# Altium footprint library Switch.PcbLib: 28 footprints (part 2 of 2)
Each footprint in its own frame and in the unit in brackets; x right, y up, seen from the top. Pads: shape width x height; smd on the part's side, far side on the other; paste and mask are expansions set on the pad; w line width, h text height; cw(c..) or ccw(c..) is an arc to the next point about the centre after c.
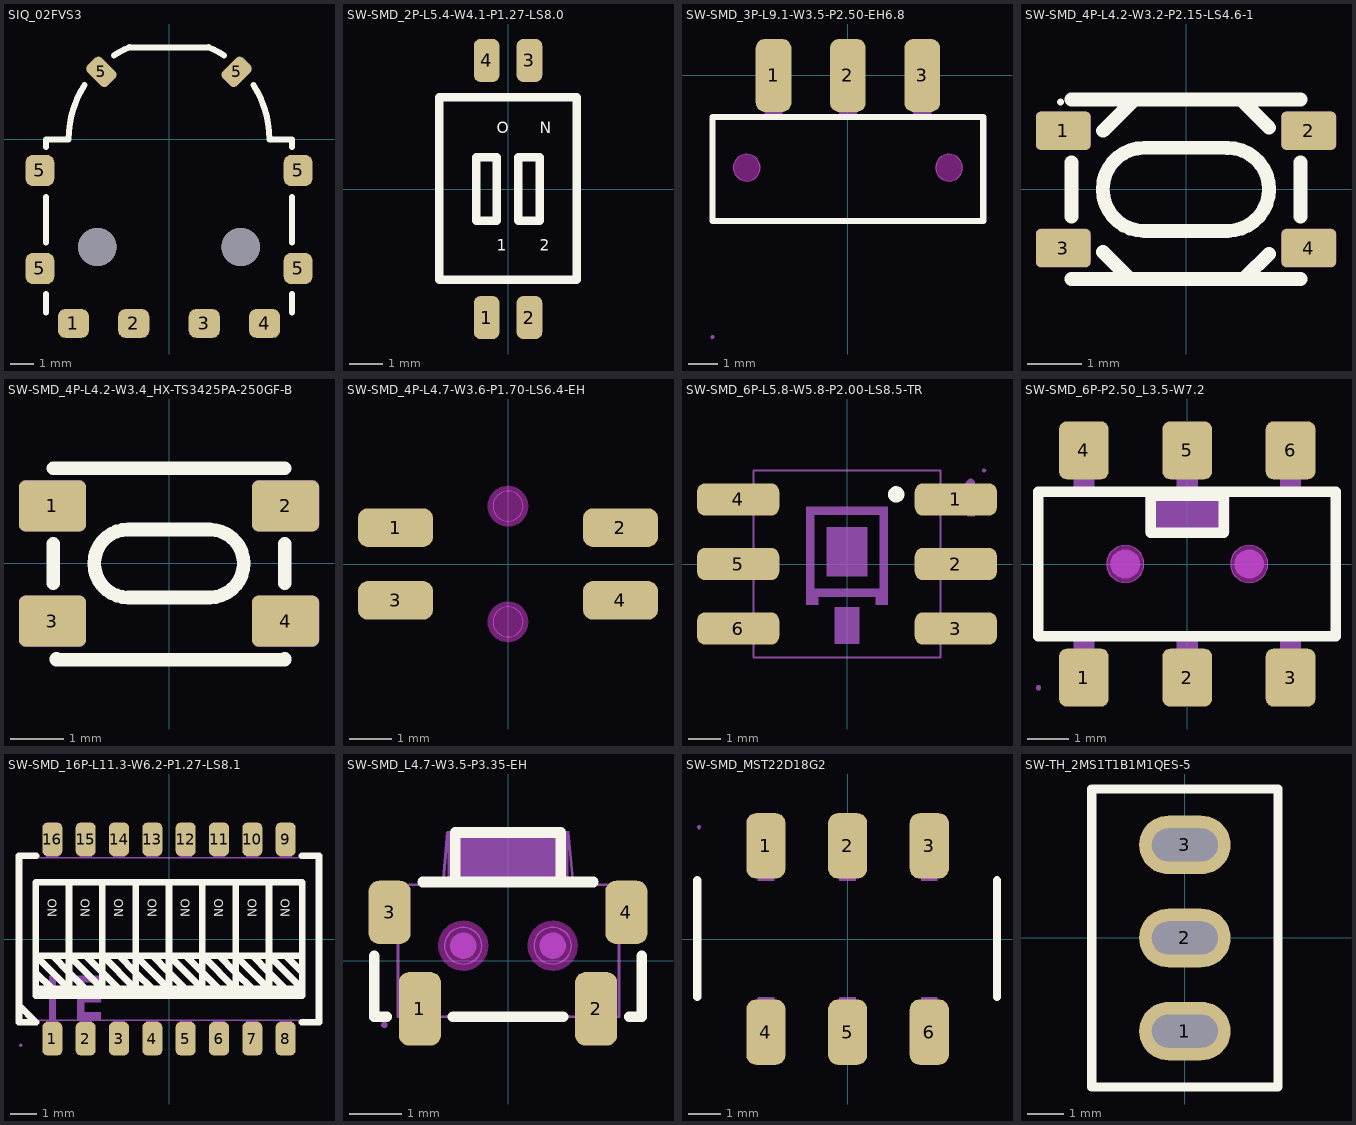
[diagram p1: the footprints below, top view; thin cyan lines are the x and y axes]

## SIQ_02FVS3 [mm] "美上美滚动编码器"
height 4.3
pads (10):
  rrect50% 1.3x1.2 smd: 1(-4,-7.7) 2(-1.475,-7.7) 3(1.475,-7.7) 4(4,-7.7)
  rrect50% 1.2x1.3 smd: 5(-5.4,-5.4) 5(-5.4,-1.3) 5(5.4,-5.4) 5(5.4,-1.3)
  rrect50% 0.85x1.2 smd rot 45: 5(-2.828,2.828)
  rrect50% 0.85x1.2 smd rot 135: 5(2.828,2.828)
via 3,-4.5 diameter 1.6 hole 1.6
via -3,-4.5 diameter 1.6 hole 1.6
Top Overlay:
  lines w0.254: -5.15,-7.25 -5.15,-6.477 ; -5.15,-4.318 -5.15,-2.402 ; -5.15,-0.324 -5.15,0 -4.2,0 cw(c0,0) -3.533,2.271 ; -2.298,3.515 cw(c0,0) -1.655,3.86 ; -1.655,3.85 1.655,3.85 ; 1.655,3.86 cw(c0,0) 2.298,3.515 ; 3.533,2.271 cw(c0,0) 4.2,0 5.15,0 5.15,-0.324 ; 5.15,-7.25 5.15,-6.477 ; 5.15,-4.318 5.15,-2.402
3D body "RE.step": height 4.06, standoff -0.44, extent -7.199,-7.5 7.199,7.25

## SW-SMD_2P-L5.4-W4.1-P1.27-LS8.0 [mm]
pads (4):
  rrect50% 0.759x1.27 smd mask+0.051: 1(-0.635,-3.81) 2(0.635,-3.81) 3(0.635,3.81) 4(-0.635,3.81)
Top Overlay:
  lines w0.254: -2.033,-2.692 2.031,-2.692 2.031,2.718 -2.033,2.718 -2.033,-2.692 ; -0.941,-0.94 -0.331,-0.94 -0.331,0.94 -0.941,0.94 -0.941,-0.94 ; 0.304,-0.94 0.939,-0.94 0.939,0.94 0.304,0.94 0.304,-0.94
  text "2" at 0.939,-1.834 h0.33
  text "1" at -0.331,-1.834 h0.33
  text "N" at 0.939,1.646 h0.33
  text "O" at -0.331,1.646 h0.33

## SW-SMD_3P-L9.1-W3.5-P2.50-EH6.8 [mm]
pads (3):
  rrect50% 1.2x2.45 smd: 1(-2.5,0) 2(0,0) 3(2.5,0)
Top Overlay:
  lines w0.203: 0.25,-4.9 1.75,-4.9 ; -4.55,-4.9 4.55,-4.9 4.55,-1.4 -4.55,-1.4 -4.55,-4.9
Keep-Out Layer:
  board cut-out: -2.95,-3.1 -2.95,-3.011 -3.019,-2.845 -3.145,-2.719 -3.311,-2.65 -3.49,-2.65 -3.655,-2.719 -3.782,-2.845 -3.85,-3.011 -3.85,-3.1 -3.85,-3.19 -3.782,-3.355 -3.655,-3.482 -3.49,-3.55 -3.311,-3.55 -3.145,-3.482 -3.019,-3.355 -2.95,-3.19 -2.95,-3.1
  board cut-out: 3.85,-3.1 3.85,-3.011 3.781,-2.845 3.655,-2.719 3.489,-2.65 3.31,-2.65 3.145,-2.719 3.018,-2.845 2.95,-3.011 2.95,-3.1 2.95,-3.19 3.018,-3.355 3.145,-3.482 3.31,-3.55 3.489,-3.55 3.655,-3.482 3.781,-3.355 3.85,-3.19 3.85,-3.1
Mechanical 1:
  circle w0.005: c-3.4,-3.1 r0.45
  circle w0.005: c3.4,-3.1 r0.45
Mechanical 15:
  region: -4.49,-8.8 -4.49,-8.775 -4.525,-8.74 -4.575,-8.74 -4.61,-8.775 -4.61,-8.8 -4.61,-8.825 -4.575,-8.86 -4.525,-8.86 -4.49,-8.825 -4.49,-8.8
  region: -2.2,0.8 -2.2,-0.8 -2.8,-0.8 -2.8,0.8
  region: 2.8,0.8 2.8,-0.8 2.2,-0.8 2.2,0.8
  region: 0.3,0.8 0.3,-0.8 -0.3,-0.8 -0.3,0.8
  region: 2.8,-0.79 2.8,-1.41 2.205,-1.41 2.205,-1.4 2.205,-0.79
  region: 0.3,-0.79 0.3,-1.41 -0.295,-1.41 -0.295,-1.4 -0.295,-0.79
  region: -2.2,-0.79 -2.2,-1.41 -2.795,-1.41 -2.795,-1.4 -2.795,-0.79
  lines w0.051: 0.25,-4.9 -4.55,-4.9 -4.55,-1.4 4.55,-1.4 4.55,-4.9 1.75,-4.9
3D body "switch1.step": height 3.5, standoff -0.3, extent -4.55,-8.9 4.55,0.8

## SW-SMD_4P-L4.2-W3.2-P2.15-LS4.6-1 [mm] "SMD; SW-SMD_4P"
height -909.212
pads (4):
  rrect25% 1x0.7 smd mask+0.05: 1(-2.25,1.075) 2(2.25,1.075) 3(-2.25,-1.075) 4(2.25,-1.075)
Top Overlay:
  region: -2.24,1.6 -2.241,1.612 -2.244,1.623 -2.25,1.633 -2.257,1.642 -2.267,1.65 -2.277,1.655 -2.288,1.659 -2.3,1.66 -2.312,1.659 -2.323,1.655 -2.333,1.65 -2.342,1.642 -2.35,1.633 -2.355,1.623 -2.359,1.612 -2.36,1.6 -2.359,1.588 -2.355,1.577 -2.35,1.567 -2.342,1.558 -2.333,1.55 -2.323,1.545 -2.312,1.541 -2.3,1.54 -2.288,1.541 -2.277,1.545 -2.267,1.55 -2.257,1.558 -2.25,1.567 -2.244,1.577 -2.241,1.588
  lines w0.254: -2.1,-1.646 2.1,-1.646 ; -2.1,-0.494 -2.1,0.494 -2.099,0.495 ; -2.1,1.646 2.1,1.646 ; -1.52,-1.151 -1.07,-1.6 ; -1.52,1.074 -0.994,1.6 ; 1.051,1.6 1.52,1.131 ; 1.102,-1.6 1.52,-1.182 ; 2.1,-0.494 2.1,0.494 ; -1.525,0.001 -1.514,-0.131 -1.479,-0.26 -1.423,-0.38 -1.347,-0.489 -1.253,-0.583 -1.144,-0.659 -1.024,-0.715 -0.896,-0.749 -0.763,-0.761 0.761,-0.761 0.893,-0.75 1.021,-0.715 1.142,-0.659 1.25,-0.583 1.344,-0.489 1.421,-0.381 1.477,-0.261 1.511,-0.132 1.523,0 1.511,0.132 1.477,0.26 1.421,0.381 1.345,0.49 1.251,0.583 1.143,0.66 1.022,0.716 0.894,0.75 0.762,0.762 -0.763,0.763 -0.896,0.751 -1.024,0.717 -1.144,0.661 -1.253,0.585 -1.347,0.491 -1.423,0.382 -1.479,0.262 -1.514,0.133 -1.525,0.001
Mechanical 9:
  drawing of 4 lines, arcs and shapes, not listed
3D body "SW-SMD_4P-L4.2-W3.2-P2.15-LS4.6-1.step": height 1, standoff 0, extent -2.1,-1.6 2.1,1.6

## SW-SMD_4P-L4.2-W3.4_HX-TS3425PA-250GF-B [mm] "SMD-4P,3.35x5.2mm"
height -909.212
pads (4):
  rrect25% 1.25x0.95 smd mask+0.05: 1(-2.175,1.075) 2(2.175,1.075) 3(-2.175,-1.075) 4(2.175,-1.075)
Top Overlay:
  lines w0.254: -2.159,-0.369 -2.159,0.369 ; -2.159,1.781 2.159,1.781 ; -2.1,-1.781 -2.1,-1.8 2.159,-1.8 2.159,-1.781 ; -0.762,0.635 -0.872,0.625 -0.979,0.597 -1.08,0.55 -1.17,0.486 -1.248,0.408 -1.312,0.317 -1.359,0.216 -1.387,0.109 -1.397,-0.001 -1.387,-0.111 -1.358,-0.218 -1.311,-0.318 -1.248,-0.409 -1.169,-0.487 -1.079,-0.551 -0.978,-0.597 -0.871,-0.626 -0.761,-0.636 0.763,-0.636 ; -0.761,0.634 0.763,0.634 0.873,0.624 0.979,0.595 1.079,0.548 1.169,0.484 1.246,0.406 1.309,0.315 1.356,0.215 1.384,0.109 1.393,-0.001 1.384,-0.111 1.355,-0.217 1.309,-0.317 1.246,-0.407 1.168,-0.485 1.078,-0.549 0.978,-0.596 0.872,-0.625 0.762,-0.635 ; 2.159,-0.369 2.159,0.369
Mechanical 9:
  drawing of 4 lines, arcs and shapes, not listed
3D body "SW-SMD_4P-L4.2-W3.4_HX-TS3425PA-250GF-B.step": height 1, standoff 0, extent -2.8,-1.8 2.8,1.781

## SW-SMD_4P-L4.7-W3.6-P1.70-LS6.4-EH [mm]
pads (4):
  rrect50% 1.75x0.9 smd paste+0 mask+0.05: 1(-2.625,0.85) 2(2.625,0.85) 3(-2.625,-0.85) 4(2.625,-0.85)
Keep-Out Layer:
  board cut-out: 0.35,1.35 0.35,1.419 0.296,1.547 0.197,1.644 0.069,1.697 -0.069,1.697 -0.197,1.644 -0.295,1.547 -0.349,1.419 -0.35,1.35 -0.349,1.281 -0.296,1.153 -0.197,1.056 -0.069,1.003 0.069,1.003 0.197,1.056 0.296,1.153 0.35,1.281 0.35,1.35
  board cut-out: 0.35,-1.35 0.35,-1.281 0.296,-1.153 0.197,-1.056 0.069,-1.003 -0.069,-1.003 -0.197,-1.056 -0.295,-1.153 -0.349,-1.281 -0.35,-1.35 -0.349,-1.419 -0.296,-1.547 -0.197,-1.644 -0.069,-1.697 0.069,-1.697 0.197,-1.644 0.296,-1.547 0.35,-1.419 0.35,-1.35
Mechanical 1:
  circle w0.025: c0,1.35 r0.35
  circle w0.025: c0,-1.35 r0.35
Multi-Layer keep-out:
  circle w0.254: c0,1.35 r0.35
  circle w0.254: c0,-1.35 r0.35
3D body "key.step": height 2.5, standoff -0.5, extent -3.2,-1.805 3.2,1.805

## SW-SMD_6P-L5.8-W5.8-P2.00-LS8.5-TR [mm]
pads (6):
  rrect50% 2.55x1 smd: 1(3.375,2) 2(3.375,0) 3(3.375,-2) 4(-3.375,2) 5(-3.375,0) 6(-3.375,-2)
Top Overlay:
  circle w0.254: c1.524,2.159 r0.127
Mechanical 6:
  region: 3.644,2.494 3.761,2.611 3.768,2.618 3.784,2.629 3.802,2.636 3.821,2.64 3.831,2.64 3.843,2.64 3.867,2.635 3.889,2.626 3.91,2.613 3.918,2.604 3.938,2.584 3.945,2.577 3.955,2.562 3.962,2.544 3.966,2.526 3.966,2.516 3.966,1.473 3.755,1.473 3.753,1.473 3.75,1.472 3.747,1.471 3.744,1.469 3.743,1.468 3.743,2.33 3.74,2.337 3.593,2.238 3.573,2.238 3.535,2.254 3.507,2.282 3.491,2.32 3.491,2.34 3.491,2.398
  region: 1.27,1.778 1.27,-1.27 0.889,-1.27 0.889,-1.016 -0.889,-1.016 -0.889,-1.27 -1.27,-1.27 -1.27,1.778 1.016,1.778 1.016,1.524 -1.016,1.524 -1.016,-0.762 1.016,-0.762 1.016,1.397
  region: 1.27,1.778 1.016,1.778 1.016,1.397
  region: 0.381,-2.476 -0.381,-2.476 -0.381,-1.333 0.381,-1.333
  region: 0.635,1.143 0.635,-0.381 -0.635,-0.381 -0.635,1.143
Mechanical 15:
  region: 4.31,2.9 4.309,2.924 4.274,2.957 4.226,2.957 4.191,2.924 4.19,2.9 4.191,2.876 4.226,2.842 4.274,2.842 4.309,2.876 4.31,2.9
  region: -2.75,-1.7 -4.25,-1.7 -4.25,-2.3 -2.75,-2.3
  region: -2.75,0.3 -4.25,0.3 -4.25,-0.3 -2.75,-0.3
  region: -2.75,2.3 -4.25,2.3 -4.25,1.7 -2.75,1.7
  region: 4.25,-1.7 2.75,-1.7 2.75,-2.3 4.25,-2.3
  region: 4.25,0.3 2.75,0.3 2.75,-0.3 4.25,-0.3
  region: 4.25,2.3 2.75,2.3 2.75,1.7 4.25,1.7
  lines w0.051: -2.9,-2.9 -2.9,2.9 2.9,2.9 2.9,-2.9 -2.9,-2.9
3D body "自锁.step": height 10.3, standoff 0, extent -4.25,-2.9 4.25,2.9

## SW-SMD_6P-P2.50_L3.5-W7.2 [mm]
pads (6):
  rrect30% 1.2x1.4 smd: 1(-2.5,-2.75) 2(0,-2.75) 3(2.5,-2.75) 4(-2.5,2.75) 5(0,2.75) 6(2.5,2.75)
Top Overlay:
  lines w0.254: -3.6,-1.75 3.6,-1.75 3.6,1.75 -3.6,1.75 -3.6,-1.75 ; -0.889,0.762 0.889,0.762 0.889,1.651 -0.889,1.651 -0.889,0.762
Keep-Out Layer:
  board cut-out: -1.05,0 -1.05,0.09 -1.118,0.255 -1.245,0.382 -1.41,0.45 -1.589,0.45 -1.755,0.382 -1.881,0.255 -1.95,0.09 -1.95,0 -1.95,-0.09 -1.881,-0.255 -1.755,-0.382 -1.589,-0.45 -1.41,-0.45 -1.245,-0.382 -1.118,-0.255 -1.05,-0.09 -1.05,0
  board cut-out: 1.95,0 1.95,0.09 1.882,0.255 1.755,0.382 1.59,0.45 1.411,0.45 1.245,0.382 1.119,0.255 1.05,0.09 1.05,0 1.05,-0.09 1.119,-0.255 1.245,-0.382 1.411,-0.45 1.59,-0.45 1.755,-0.382 1.882,-0.255 1.95,-0.09 1.95,0
Mechanical 1:
  circle w0.005: c-1.5,0 r0.45
  circle w0.005: c1.5,0 r0.45
Mechanical 6:
  region: -1.016,1.778 1.016,1.778 1.016,0.762 -1.016,0.762
Mechanical 15:
  region: -3.54,-3 -3.54,-2.975 -3.575,-2.94 -3.625,-2.94 -3.66,-2.975 -3.66,-3 -3.66,-3.025 -3.625,-3.06 -3.575,-3.06 -3.54,-3.025 -3.54,-3
  region: -1.15,0 -1.15,0.07 -1.203,0.198 -1.302,0.297 -1.43,0.35 -1.569,0.35 -1.698,0.297 -1.797,0.198 -1.85,0.07 -1.85,0 -1.85,-0.07 -1.797,-0.198 -1.698,-0.297 -1.569,-0.35 -1.43,-0.35 -1.302,-0.297 -1.203,-0.198 -1.15,-0.07 -1.15,0
  region: 1.85,0 1.85,0.07 1.797,0.198 1.698,0.297 1.57,0.35 1.431,0.35 1.302,0.297 1.203,0.198 1.15,0.07 1.15,0 1.15,-0.07 1.203,-0.198 1.302,-0.297 1.431,-0.35 1.57,-0.35 1.698,-0.297 1.797,-0.198 1.85,-0.07 1.85,0
  region: 2.25,1.74 2.25,2.31 2.75,2.31 2.75,1.74
  region: 2.25,2.3 2.25,3 2.75,3 2.75,2.3
  region: -0.25,1.74 -0.25,2.31 0.25,2.31 0.25,1.74
  region: -0.25,2.3 -0.25,3 0.25,3 0.25,2.3
  region: -2.75,1.74 -2.75,2.31 -2.25,2.31 -2.25,1.74
  region: -2.75,2.3 -2.75,3 -2.25,3 -2.25,2.3
  region: 2.25,-2.31 2.25,-1.74 2.75,-1.74 2.75,-2.31
  region: 2.25,-3 2.25,-2.3 2.75,-2.3 2.75,-3
  region: -0.25,-2.31 -0.25,-1.74 0.25,-1.74 0.25,-2.31
  region: -0.25,-3 -0.25,-2.3 0.25,-2.3 0.25,-3
  region: -2.75,-2.31 -2.75,-1.74 -2.25,-1.74 -2.25,-2.31
  region: -2.75,-3 -2.75,-2.3 -2.25,-2.3 -2.25,-3
  lines w0.051: -3.6,-1.75 -3.6,1.75 3.6,1.75 3.6,-1.75 -3.6,-1.75

## SW-SMD_16P-L11.3-W6.2-P1.27-LS8.1 [mil]
pads (16):
  rrect50% 30x50 smd mask+2: 1(-175,-149.61) 2(-125,-149.61) 3(-75,-149.61) 4(-25,-149.61) 5(25,-149.61) 6(75,-149.61) 7(125,-149.61) 8(175,-149.61) 9(175,149.61) 10(125,149.61) 11(75,149.61) 12(25,149.61) 13(-25,149.61) 14(-75,149.61) 15(-125,149.61) 16(-175,149.61)
Top Overlay:
  lines w10: -225,-99.41 -199.41,-125 -199.1,-125 -225,-125 -225,125 -199.1,125 ; -200,-75 -150,-75 ; -200,-50 -175,-75 ; -175,-25 -150,-50 -125,-75 ; -125,-25 -100,-50 -75,-75 ; -75,-25 -50,-50 -25,-75 ; -25,-25 0,-50 25,-75 ; 25,-25 50,-50 75,-75 ; 75,-25 100,-50 125,-75 ; 125,-25 150,-50 175,-75 ; 175,-25 200,-50 ; 199.1,-125 225,-125 225,125 199.1,125 ; 200,-25 150,-25 ; -150,-85 -150,85 ; -150,-85 -150,85 ; -150,-85 -150,85 ; -150,-85 -150,85 ; -150,-85 -150,85 ; -150,-85 -100,-85 ; -150,-85 -150,85 ; -150,-85 -200,-85 -200,85 -150,85 ; -150,-75 -200,-25 -150,-25 ; -150,-75 -100,-75 ; -150,-25 -100,-25 ; -150,-25 -100,-75 ; -150,85 -100,85 ; -100,-85 -100,85 ; -100,-85 -100,85 ; -100,-85 -50,-85 ; -100,-85 -100,85 ; -100,-85 -100,85 ; -100,-75 -50,-75 ; -100,-25 -50,-75 ; -100,-25 -50,-25 ; -100,85 -50,85 ; -50,-85 0,-85 ; -50,-85 -50,85 ; -50,-85 -50,85 ; -50,-85 -50,85 ; -50,-85 -50,85 ; -50,-85 -50,85 ; -50,-85 -50,85 ; -50,-75 0,-75 ; -50,-25 0,-25 ; -50,-25 0,-75 ; -50,85 0,85 ; 0,-85 50,-85 ; 0,-85 0,85 ; 0,-85 0,85 ; 0,-75 50,-75 ; 0,-25 50,-75 ; 0,-25 50,-25 ; 0,85 50,85 ; 50,-85 50,85 ; 50,-85 50,85 ; 50,-85 50,85 ; 50,-85 50,85 ; 50,-85 100,-85 ; 50,-75 100,-75 ; 50,-25 100,-75 ; 50,-25 100,-25 ; 50,85 100,85 ; 100,-85 150,-85 ; 100,-85 100,85 ; 100,-85 100,85 ; 100,-75 150,-75 ; 100,-25 150,-75 ; 100,-25 150,-25 ; 100,85 150,85 ; 150,-85 150,85 ; 150,-85 150,85 ; 150,-85 200,-85 200,85 150,85 ; 150,-75 200,-75 150,-25
  text "ON" at -82.21,60.54 h12.98
  text "ON" at -32.21,60.54 h12.98
  text "ON" at 17.79,60.54 h12.98
  text "ON" at 167.79,60.54 h12.98
  text "ON" at 117.79,60.54 h12.98
  text "ON" at 67.79,60.54 h12.98
  text "ON" at -132.21,60.54 h12.98
  text "ON" at -182.21,60.54 h12.98
Mechanical 6:
  region: -175,-77.5 -170,-77.5 -170,-122.5 -180,-122.5 -180,-77.5
  region: -137.5,-55 -102.5,-55 -102.5,-65 -137.5,-65
  region: -112.5,-95 -112.5,-60 -102.5,-60 -102.5,-95
  region: -137.5,-85 -102.5,-85 -102.5,-95 -137.5,-95
  region: -137.5,-120 -137.5,-85 -127.5,-85 -127.5,-120
  region: -137.5,-110 -102.5,-110 -102.5,-120 -137.5,-120
  region: -180,-90 -180,-55 -170,-55 -170,-90
Mechanical 15:
  drawing of 37 lines, arcs and shapes, not listed
3D body "8BIT.step": height 90.55, standoff -0.01, extent -222.24,-158.9 222.24,160

## SW-SMD_L4.7-W3.5-P3.35-EH [mm]
pads (4):
  rrect50% 0.8x1.4 smd: 1(-1.675,-0.917) 2(1.675,-0.917)
  rrect50% 0.8x1.2 smd: 3(-2.25,0.917) 4(2.25,0.917)
Top Overlay:
  lines w0.203: -2.54,0.086 -2.54,-1.068 -2.306,-1.068 ; -1.619,1.494 0.088,1.494 1.619,1.494 ; -1.044,-1.068 0.088,-1.068 1.044,-1.068 ; -1,1.494 -1,2.432 1,2.432 1,1.513 ; 2.306,-1.068 2.54,-1.068 2.54,0.086
Keep-Out Layer:
  board cut-out: 1.2,0.282 1.199,0.352 1.145,0.479 1.047,0.576 0.919,0.628 0.781,0.628 0.653,0.576 0.555,0.479 0.501,0.352 0.5,0.282 0.501,0.213 0.555,0.086 0.653,-0.011 0.781,-0.063 0.919,-0.063 1.047,-0.011 1.145,0.086 1.199,0.213 1.2,0.282
  board cut-out: -0.5,0.282 -0.501,0.352 -0.555,0.479 -0.653,0.576 -0.781,0.628 -0.919,0.628 -1.047,0.576 -1.145,0.479 -1.199,0.352 -1.2,0.282 -1.199,0.213 -1.145,0.086 -1.047,-0.011 -0.919,-0.063 -0.781,-0.063 -0.653,-0.011 -0.555,0.086 -0.501,0.213 -0.5,0.282
Mechanical 1:
  circle w0.025: c0.85,0.282 r0.35
  circle w0.025: c-0.85,0.282 r0.35
Mechanical 6:
  circle w0.25: c-0.85,0.282 r0.125
  circle w0.25: c0.85,0.282 r0.125
  region: -1.149,2.431 1.147,2.431 1.147,1.448 -1.146,1.448 -1.146,1.608
Mechanical 15:
  region: -1.85,-0.42 -1.5,-0.42 -1.5,-1.22 -1.85,-1.22
  region: 1.5,-0.42 1.85,-0.42 1.85,-1.22 1.5,-1.22
  region: -2.35,1.32 -1.95,1.32 -1.95,0.52 -2.35,0.52
  region: 1.96,1.32 2.36,1.32 2.36,0.52 1.96,0.52
  region: -2.29,-1.22 -2.291,-1.196 -2.326,-1.163 -2.374,-1.163 -2.409,-1.196 -2.41,-1.22 -2.409,-1.244 -2.374,-1.278 -2.326,-1.278 -2.291,-1.244 -2.29,-1.22
  lines w0.051: -2.09,-1.07 2.11,-1.07 2.11,1.43 2.1,1.44 1.24,1.44 1.146,2.438 -1.151,2.432 -1.236,1.447 -2.08,1.442 -2.09,1.433 -2.09,-1.07
Multi-Layer keep-out:
  circle w0.254: c0.85,0.282 r0.35
  circle w0.254: c-0.85,0.282 r0.35

## SW-SMD_MST22D18G2 [mm]
pads (6):
  rrect50% 1.2x2 smd: 1(-2.5,2.85) 2(0,2.85) 3(2.5,2.85) 4(-2.5,-2.85) 5(0,-2.85) 6(2.5,-2.85)
Top Overlay:
  lines w0.254: -4.6,-1.778 -4.6,1.8 ; 4.572,-1.778 4.572,1.8
Mechanical 15:
  region: -4.49,3.425 -4.49,3.45 -4.525,3.485 -4.575,3.485 -4.61,3.45 -4.61,3.425 -4.61,3.4 -4.575,3.365 -4.525,3.365 -4.49,3.4 -4.49,3.425
  region: -2.75,-2.635 -2.75,-1.79 -2.25,-1.79 -2.25,-2.635
  region: -2.75,-3.425 -2.75,-2.625 -2.25,-2.625 -2.25,-3.425
  region: 2.25,1.79 2.25,2.635 2.75,2.635 2.75,1.79
  region: 2.25,2.625 2.25,3.425 2.75,3.425 2.75,2.625
  region: -0.25,1.79 -0.25,2.635 0.25,2.635 0.25,1.79
  region: -0.25,2.625 -0.25,3.425 0.25,3.425 0.25,2.625
  region: -2.75,1.79 -2.75,2.635 -2.25,2.635 -2.25,1.79
  region: -2.75,2.625 -2.75,3.425 -2.25,3.425 -2.25,2.625
  region: 2.25,-2.635 2.25,-1.79 2.75,-1.79 2.75,-2.635
  region: 2.25,-3.425 2.25,-2.625 2.75,-2.625 2.75,-3.425
  region: -0.25,-2.635 -0.25,-1.79 0.25,-1.79 0.25,-2.635
  region: -0.25,-3.425 -0.25,-2.625 0.25,-2.625 0.25,-3.425
  lines w0.051: -4.55,-1.8 -4.55,1.8 ; 4.55,-1.8 4.55,1.8

## SW-TH_2MS1T1B1M1QES-5 [mm] "3脚直插钮子开关L=8mm"
pads (3):
  oval 2.5x1.6 hole 0.9 slot 1.8 at 0 deg mask+0.051: 1(0,-2.54) 2(0,0) 3(0,2.54)
Top Overlay:
  lines w0.254: -2.54,-2.568 -2.54,-2.413 -2.54,1.597 -2.54,4.064 2.54,4.064 2.54,1.596 2.54,-1.869 ; -2.54,-1.596 -2.54,-4.065 2.54,-4.065 2.54,-1.597
Mechanical 15:
  region: 2.6,-4.06 2.6,-4.035 2.565,-4 2.515,-4 2.48,-4.035 2.48,-4.06 2.48,-4.085 2.515,-4.12 2.565,-4.12 2.6,-4.085 2.6,-4.06
  region: 0.76,2.795 0.76,2.285 -0.76,2.285 -0.76,2.795
  region: 0.76,0.255 0.76,-0.255 -0.76,-0.255 -0.76,0.255
  region: 0.76,-2.285 0.76,-2.795 -0.76,-2.795 -0.76,-2.285
  lines w0.051: -2.54,-4.065 -2.54,4.065 2.54,4.065 2.54,-4.065 -2.54,-4.065